# Altium schematic symbol library PBL - Power Supplies.SCHLIB: 5 symbols
Pins are listed as number, name and electrical type; pins without a type are passive.

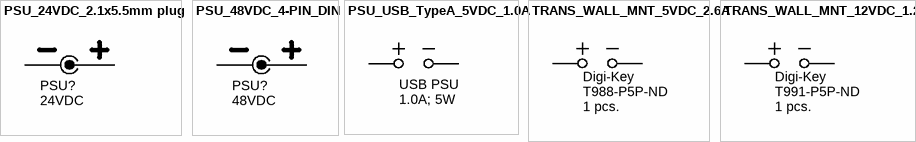
[diagram p0: symbols PSU_24VDC_2.1x5.5mm plug to TRANS_WALL_MNT_12VDC_1.25A]

## PSU_24VDC_2.1x5.5mm plug
designator PSU?, comment 24VDC  (mechanical)
Power Supply 24VDC 2.5A 2.1mm ID x 5.5mm OD plug; Manufacturer 1: CUI Inc; Manufacturer Part Number 1: ETS240250UTC-P5RP-SZ; Ratings: 24VDC; 2.5A; Form: Desktop (3 Prong with Cord); Polarization: Positive Center; Cord Plug: 2.1mm I.D. x 5.5mm O.D. x 12mm Female; Voltage - Input: 100 ~ 240VAC; Power - Output: 60W; Transformer Type: Switching - Energy Star; SCDType: undef; Value: 24VDC; RoHS: RoHS Compliant; Supplier 1: Digi-Key; Supplier Part Number 1: T1049-P5RP-ND
pins: 1, 2

## PSU_48VDC_4-PIN_DIN
designator PSU?, comment 48VDC  (mechanical)
Power Supply 48VDC 100W 4-pin DIN plug; Manufacturer 1: TDK-LAMBDA AMERICAS INC; Manufacturer Part Number 1: DT100PW480C; Ratings: 48VDC; 2.09A; 100W; Form: Desktop (3 Prong with Cord); Voltage - Input: 100 ~ 240VAC; Transformer Type: Switching - Energy Star; SCDType: undef; Value: 48VDC; Cord Plug: 4-Pin DIN; Supplier 1: Digi-Key; Supplier Part Number 1: 285-1925-ND
pins: 1, 2

## PSU_USB_TypeA_5VDC_1.0A
designator PSU?, comment USB PSU  Ratings: 1.0A; 5W  (mechanical)
Power supply wall wart USB Type A 5W; Manufacturer 1: CUI Inc; Manufacturer Part Number 1: EPS050100U-I38-SZ; Value: 5VDC; SCDType: undef; Supplier 1: Digi-Key; Supplier Part Number 1: T1003-ND

## TRANS_WALL_MNT_5VDC_2.6A
designator PSU?, comment 1 pcs.  Supplier 1: Digi-Key  Supplier Part Number 1: T988-P5P-ND  (mechanical)
Transformer, Wall-Mount, 5VDC; Manufacturer 1: CUI Inc; Manufacturer Part Number 1: EPS050260UH-P5P-SZ; Ratings: 2.6A; 15W; SCDType: undef; Value: 5VDC

## TRANS_WALL_MNT_12VDC_1.25A
designator PSU?, comment 1 pcs.  Supplier 1: Digi-Key  Supplier Part Number 1: T991-P5P-ND  (mechanical)
Transformer, Wall-Mount, 12VDC; Manufacturer 1: CUI Inc; Manufacturer Part Number 1: EPS120125UH-P5P-SZ; Ratings: 1.25A; 15W; SCDType: undef; Value: 12VDC